# Altium footprint library drossel.PcbLib: 18 footprints (part 2 of 2)
Each footprint in its own frame and in the unit in brackets; x right, y up, seen from the top. Pads: shape width x height; smd on the part's side, far side on the other; paste and mask are expansions set on the pad; w line width, h text height; cw(c..) or ccw(c..) is an arc to the next point about the centre after c.
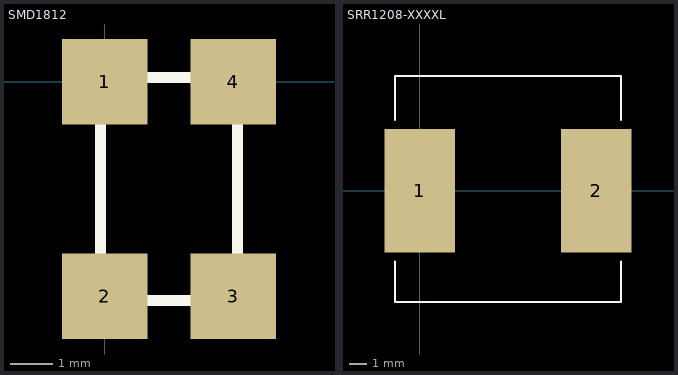
[diagram p1: the footprints below, top view; thin cyan lines are the x and y axes]

## SMD1812 [mm]
pads (4):
  rect 2x2 smd: 1(0,0) 2(0,-5) 3(3,-5) 4(3,0)
Top Overlay:
  lines w0.254: -0.1,-5.1 3.1,-5.1 3.1,0.1 -0.1,0.1 -0.1,-5.1

## SRR1208-XXXXL [mm]
pads (2):
  rect 4x7 smd: 1(0,0) 2(10,0)
Top Overlay:
  lines w0.1: -1.4,-4 -1.4,-6.3 11.4,-6.3 11.4,-4 ; -1.4,4 -1.4,6.5 11.4,6.5 11.4,4